# EAGLE library part LMJ3628844TA753 (library con-rj45)
Connector RJ45, With LEDs
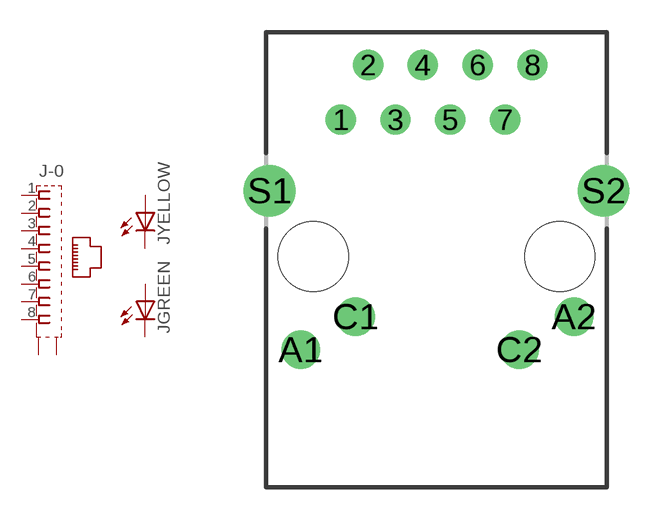
[diagram p0: symbol with the pads of LMJ3628844TA753; footprint LMJ3628844TA753]

Designator prefix J; gates -0=RJ45-SHIELD GREEN=LED YELLOW=LED

## LMJ3628844TA753  [LMJ3628844TA753]
1  -0:1  pas
2  -0:2  pas
3  -0:3  pas
4  -0:4  pas
5  -0:5  pas
6  -0:6  pas
7  -0:7  pas
8  -0:8  pas
A1  GREEN:A  pas
A2  YELLOW:A  pas
C1  GREEN:C  pas
C2  YELLOW:C  pas
S1  -0:S1  pas
S2  -0:S2  pas

## Footprint LMJ3628844TA753 (pad centres in mm)
RJ45 Jack 8 Position right angle, low profile, panel ground with LEDs
drill 0.9: 1 -4.445,6.35; 2 -3.175,8.89; 3 -1.905,6.35; 4 -0.635,8.89; 5 0.635,6.35; 6 1.905,8.89; 7 3.175,6.35; 8 4.445,8.89
drill 1.2: A1 -6.295,-4.32; A2 6.375,-2.79; C1 -3.755,-2.79; C2 3.835,-4.32
drill 1.6: S1 -7.745,3.05; S2 7.745,3.05
hole 3.25 at -5.715,0
hole 3.25 at 5.715,0